# EAGLE library part LM2576-D2T (library FirePick)
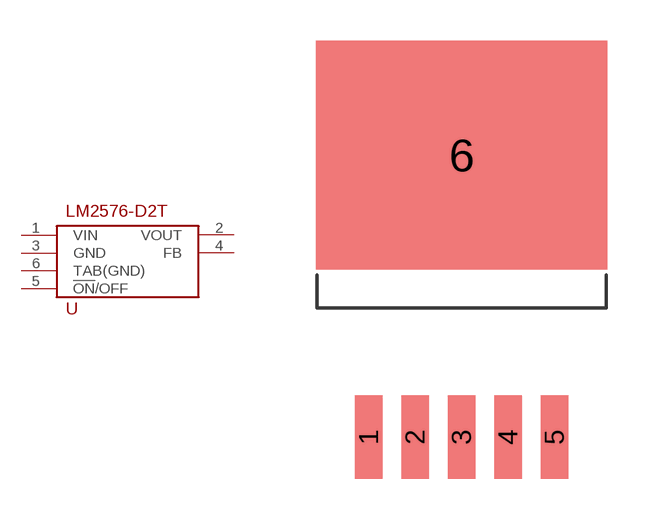
[diagram p7: symbol with the pads of D2PAK; footprint D2PAK]

Designator prefix -

## LM2576-D2T  [D2PAK]
1  VIN  pwr
2  VOUT  pwr
3  GND  pwr
4  FB  in
5  !ON!/OFF
6  TAB(GND)

## Footprint D2PAK (pad centres in mm)
smd 1.016 x 3.05: 1 -3.404,-10.33; 2 -1.702,-10.33; 3 0,-10.33; 4 1.702,-10.33; 5 3.404,-10.33
smd 10.66 x 8.38: 6 0,0